# EAGLE library part XC95144XL (library quickdev_v2)
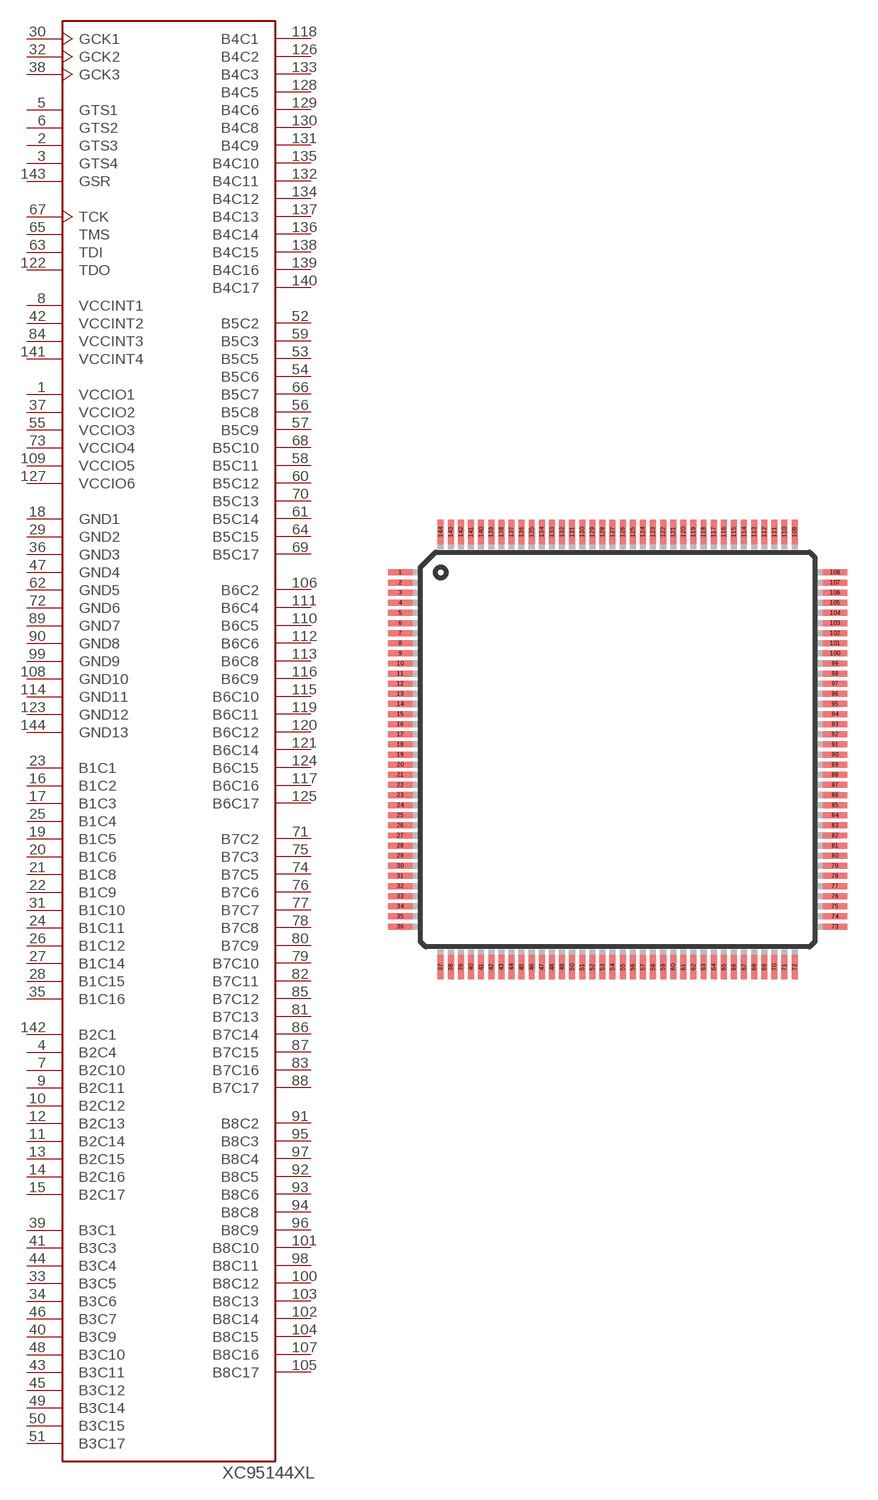
[diagram p2: symbol with the pads of TQ144; footprint TQ144]

Designator prefix -

## XC95144XL  [TQ144]
1  VCCIO1  pwr
2  GTS3
3  GTS4
4  B2C4
5  GTS1
6  GTS2
7  B2C10
8  VCCINT1  pwr
9  B2C11
10  B2C12
11  B2C14
12  B2C13
13  B2C15
14  B2C16
15  B2C17
16  B1C2
17  B1C3
18  GND1  pwr
19  B1C5
20  B1C6
21  B1C8
22  B1C9
23  B1C1
24  B1C11
25  B1C4
26  B1C12
27  B1C14
28  B1C15
29  GND2  pwr
30  GCK1  in
31  B1C10
32  GCK2  in
33  B3C5
34  B3C6
35  B1C16
36  GND3  pwr
37  VCCIO2  pwr
38  GCK3  in
39  B3C1
40  B3C9
41  B3C3
42  VCCINT2  pwr
43  B3C11
44  B3C4
45  B3C12
46  B3C7
47  GND4  pwr
48  B3C10
49  B3C14
50  B3C15
51  B3C17
52  B5C2
53  B5C5
54  B5C6
55  VCCIO3  pwr
56  B5C8
57  B5C9
58  B5C11
59  B5C3
60  B5C12
61  B5C14
62  GND5  pwr
63  TDI  in
64  B5C15
65  TMS  in
66  B5C7
67  TCK  in
68  B5C10
69  B5C17
70  B5C13
71  B7C2
72  GND6  pwr
73  VCCIO4  pwr
74  B7C5
75  B7C3
76  B7C6
77  B7C7
78  B7C8
79  B7C10
80  B7C9
81  B7C13
82  B7C11
83  B7C16
84  VCCINT3  pwr
85  B7C12
86  B7C14
87  B7C15
88  B7C17
89  GND7  pwr
90  GND8  pwr
91  B8C2
92  B8C5
93  B8C6
94  B8C8
95  B8C3
96  B8C9
97  B8C4
98  B8C11
99  GND9  pwr
100  B8C12
101  B8C10
102  B8C14
103  B8C13
104  B8C15
105  B8C17
106  B6C2
107  B8C16
108  GND10  pwr
109  VCCIO5  pwr
110  B6C5
111  B6C4
112  B6C6
113  B6C8
114  GND11  pwr
115  B6C10
116  B6C9
117  B6C16
118  B4C1
119  B6C11
120  B6C12
121  B6C14
122  TDO  out
123  GND12  pwr
124  B6C15
125  B6C17
126  B4C2
127  VCCIO6  pwr
128  B4C5
129  B4C6
130  B4C8
131  B4C9
132  B4C11
133  B4C3
134  B4C12
135  B4C10
136  B4C14
137  B4C13
138  B4C15
139  B4C16
140  B4C17
141  VCCINT4  pwr
142  B2C1
143  GSR
144  GND13  pwr

## Footprint TQ144 (pad centres in mm)
smd 1.2 x 0.295: 1 -10.75,8.75; 2 -10.75,8.25; 3 -10.75,7.75; 4 -10.75,7.25; 5 -10.75,6.75; 6 -10.75,6.25; 7 -10.75,5.75; 8 -10.75,5.25; 9 -10.75,4.75; 10 -10.75,4.25; 11 -10.75,3.75; 12 -10.75,3.25; 13 -10.75,2.75; 14 -10.75,2.25; 15 -10.75,1.75; 16 -10.75,1.25; 17 -10.75,0.75; 18 -10.75,0.25; 19 -10.75,-0.25; 20 -10.75,-0.75; 21 -10.75,-1.25; 22 -10.75,-1.75; 23 -10.75,-2.25; 24 -10.75,-2.75; 25 -10.75,-3.25; 26 -10.75,-3.75; 27 -10.75,-4.25; 28 -10.75,-4.75; 29 -10.75,-5.25; 30 -10.75,-5.75; 31 -10.75,-6.25; 32 -10.75,-6.75; 33 -10.75,-7.25; 34 -10.75,-7.75; 35 -10.75,-8.25; 36 -10.75,-8.75; 73 10.75,-8.75; 74 10.75,-8.25; 75 10.75,-7.75; 76 10.75,-7.25; 77 10.75,-6.75; 78 10.75,-6.25; 79 10.75,-5.75; 80 10.75,-5.25; 81 10.75,-4.75; 82 10.75,-4.25; 83 10.75,-3.75; 84 10.75,-3.25; 85 10.75,-2.75; 86 10.75,-2.25; 87 10.75,-1.75; 88 10.75,-1.25; 89 10.75,-0.75; 90 10.75,-0.25; 91 10.75,0.25; 92 10.75,0.75; 93 10.75,1.25; 94 10.75,1.75; 95 10.75,2.25; 96 10.75,2.75; 97 10.75,3.25; 98 10.75,3.75; 99 10.75,4.25; 100 10.75,4.75; 101 10.75,5.25; 102 10.75,5.75; 103 10.75,6.25; 104 10.75,6.75; 105 10.75,7.25; 106 10.75,7.75; 107 10.75,8.25; 108 10.75,8.75
smd 0.295 x 1.2: 37 -8.75,-10.75; 38 -8.25,-10.75; 39 -7.75,-10.75; 40 -7.25,-10.75; 41 -6.75,-10.75; 42 -6.25,-10.75; 43 -5.75,-10.75; 44 -5.25,-10.75; 45 -4.75,-10.75; 46 -4.25,-10.75; 47 -3.75,-10.75; 48 -3.25,-10.75; 49 -2.75,-10.75; 50 -2.25,-10.75; 51 -1.75,-10.75; 52 -1.25,-10.75; 53 -0.75,-10.75; 54 -0.25,-10.75; 55 0.25,-10.75; 56 0.75,-10.75; 57 1.25,-10.75; 58 1.75,-10.75; 59 2.25,-10.75; 60 2.75,-10.75; 61 3.25,-10.75; 62 3.75,-10.75; 63 4.25,-10.75; 64 4.75,-10.75; 65 5.25,-10.75; 66 5.75,-10.75; 67 6.25,-10.75; 68 6.75,-10.75; 69 7.25,-10.75; 70 7.75,-10.75; 71 8.25,-10.75; 72 8.75,-10.75; 109 8.75,10.75; 110 8.25,10.75; 111 7.75,10.75; 112 7.25,10.75; 113 6.75,10.75; 114 6.25,10.75; 115 5.75,10.75; 116 5.25,10.75; 117 4.75,10.75; 118 4.25,10.75; 119 3.75,10.75; 120 3.25,10.75; 121 2.75,10.75; 122 2.25,10.75; 123 1.75,10.75; 124 1.25,10.75; 125 0.75,10.75; 126 0.25,10.75; 127 -0.25,10.75; 128 -0.75,10.75; 129 -1.25,10.75; 130 -1.75,10.75; 131 -2.25,10.75; 132 -2.75,10.75; 133 -3.25,10.75; 134 -3.75,10.75; 135 -4.25,10.75; 136 -4.75,10.75; 137 -5.25,10.75; 138 -5.75,10.75; 139 -6.25,10.75; 140 -6.75,10.75; 141 -7.25,10.75; 142 -7.75,10.75; 143 -8.25,10.75; 144 -8.75,10.75